# Altium footprint library MergenElektronik_Capacitors_Ceramics_SMDs.PcbLib: 24 footprints (part 2 of 2)
Each footprint in its own frame and in the unit in brackets; x right, y up, seen from the top. Pads: shape width x height; smd on the part's side, far side on the other; paste and mask are expansions set on the pad; w line width, h text height; cw(c..) or ccw(c..) is an arc to the next point about the centre after c.
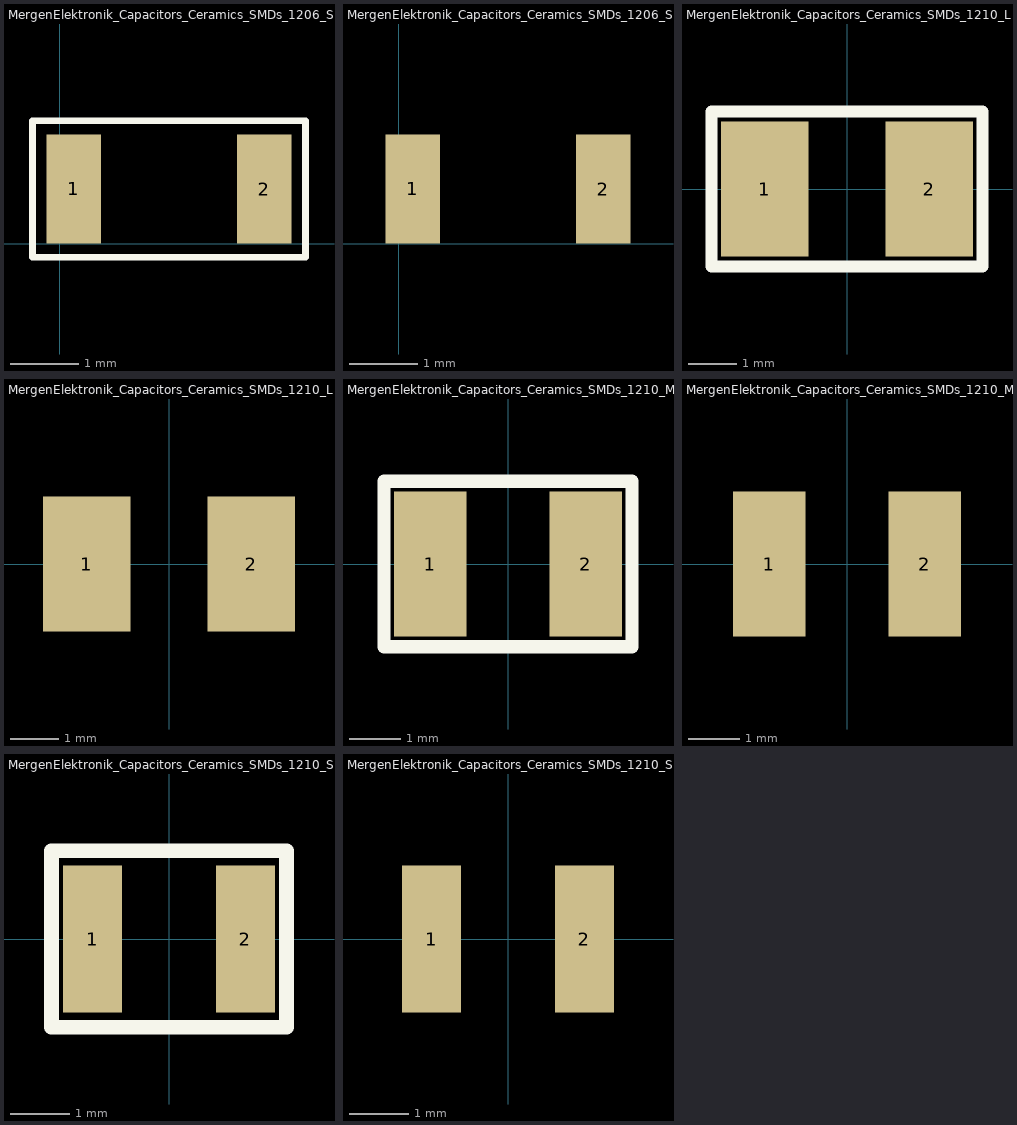
[diagram p1: the footprints below, top view; thin cyan lines are the x and y axes]

## MergenElektronik_Capacitors_Ceramics_SMDs_1206_S [mm] "1206 Small"
pads (2):
  rect 0.8x1.6 smd: 1(0.2,0.8) 2(3,0.8)
Top Overlay:
  lines w0.1: -0.4,-0.2 3.6,-0.2 3.6,1.8 -0.4,1.8 -0.4,1.05 -0.4,0.55 -0.4,-0.2
3D body "MergenElektronik_Capacitors_Ceramics_SMDs_1206.stp": height 1.35, standoff 0, extent 0,0 3.2,1.6

## MergenElektronik_Capacitors_Ceramics_SMDs_1206_S_NS [mm] "1206 Small - No Silkscreen"
pads (2):
  rect 0.8x1.6 smd: 1(0.2,0.8) 2(3,0.8)
3D body "MergenElektronik_Capacitors_Ceramics_SMDs_1206.stp": height 1.35, standoff 0, extent 0,0 3.2,1.6

## MergenElektronik_Capacitors_Ceramics_SMDs_1210_L [mm] "1210 Large"
pads (2):
  rect 1.8x2.8 smd: 1(-1.7,0) 2(1.7,0)
Top Overlay:
  lines w0.254: -2.8,-1.6 2.8,-1.6 2.8,1.6 -2.8,1.6 -2.8,-1.6
3D body "NachtElectronic_Capacitors_Ceramics_SMDs-1210.stp": height 1.35, standoff 0, extent -1.6,-1.25 1.6,1.25

## MergenElektronik_Capacitors_Ceramics_SMDs_1210_L_NS [mm] "1210 Large - No Silkscreen"
pads (2):
  rect 1.8x2.8 smd: 1(-1.7,0) 2(1.7,0)
3D body "NachtElectronic_Capacitors_Ceramics_SMDs-1210.stp": height 1.35, standoff 0, extent -1.6,-1.25 1.6,1.25

## MergenElektronik_Capacitors_Ceramics_SMDs_1210_M [mm] "1210 Medium"
pads (2):
  rect 1.4x2.8 smd: 1(-1.5,0) 2(1.5,0)
Top Overlay:
  lines w0.254: -2.4,-1.6 2.4,-1.6 2.4,1.6 -2.4,1.6 -2.4,-1.6
3D body "NachtElectronic_Capacitors_Ceramics_SMDs-1210.stp": height 1.35, standoff 0, extent -1.6,-1.25 1.6,1.25

## MergenElektronik_Capacitors_Ceramics_SMDs_1210_M_NS [mm] "1210 Medium - No Silkscreen"
pads (2):
  rect 1.4x2.8 smd: 1(-1.5,0) 2(1.5,0)
3D body "NachtElectronic_Capacitors_Ceramics_SMDs-1210.stp": height 1.35, standoff 0, extent -1.6,-1.25 1.6,1.25

## MergenElektronik_Capacitors_Ceramics_SMDs_1210_S [mm] "1210 Small"
pads (2):
  rect 1x2.5 smd: 1(-1.3,0) 2(1.3,0)
Top Overlay:
  lines w0.254: -2,-1.5 -2,1.5 2,1.5 2,-1.5 -2,-1.5
3D body "NachtElectronic_Capacitors_Ceramics_SMDs-1210.stp": height 1.35, standoff 0, extent -1.6,-1.25 1.6,1.25

## MergenElektronik_Capacitors_Ceramics_SMDs_1210_S_NS [mm] "1210 Small -No Silkscreen"
pads (2):
  rect 1x2.5 smd: 1(-1.3,0) 2(1.3,0)
3D body "NachtElectronic_Capacitors_Ceramics_SMDs-1210.stp": height 1.35, standoff 0, extent -1.6,-1.25 1.6,1.25